# Altium schematic symbol library THERMOCOUPLE.SchLib: 1 symbol
Pins are listed as number, name and electrical type; pins without a type are passive.

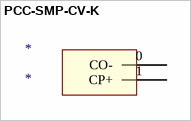
[diagram p0: symbol PCC-SMP-CV-K]

## PCC-SMP-CV-K
designator *
footprint PCC_SMP_CV_K
pins: 0 CO-, 1 CP+